# Altium schematic symbol library Diodes Zener.SchLib: 51 symbols
Pins are listed as number, name and electrical type; pins without a type are passive.

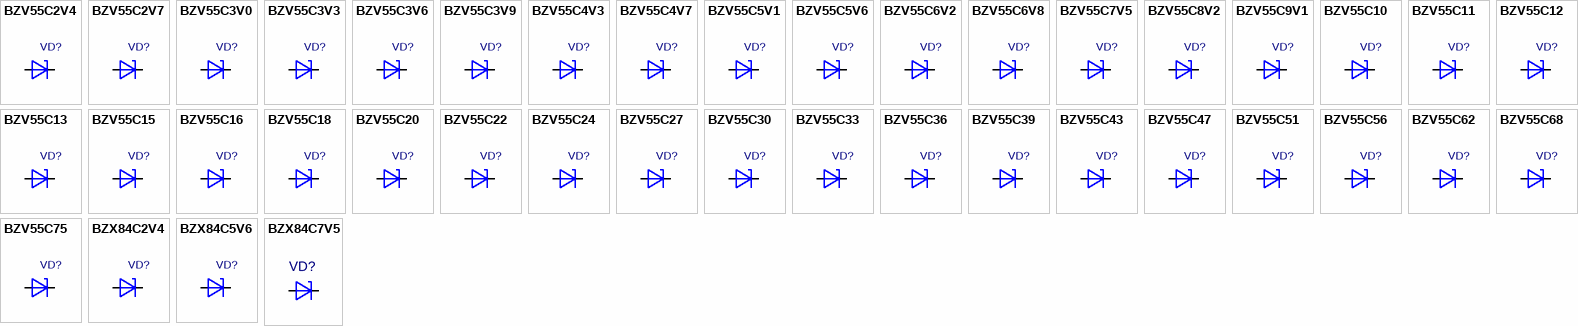
[diagram p0: symbols BZV55C2V4 to BZX84C7V5]

## BZV55C2V4
designator VD?  (value not drawn)
Value: *
footprint SOD-80C
pins: 1, 2

## BZV55C2V7
designator VD?  (value not drawn)
Value: *
footprint SOD-80C
pins: 1, 2

## BZV55C3V0
designator VD?  (value not drawn)
Value: *
footprint SOD-80C
pins: 1, 2

## BZV55C3V3
designator VD?  (value not drawn)
Value: *
footprint SOD-80C
pins: 1, 2

## BZV55C3V6
designator VD?  (value not drawn)
Value: *
footprint SOD-80C
pins: 1, 2

## BZV55C3V9
designator VD?  (value not drawn)
Value: *
footprint SOD-80C
pins: 1, 2

## BZV55C4V3
designator VD?  (value not drawn)
Value: *
footprint SOD-80C
pins: 1, 2

## BZV55C4V7
designator VD?  (value not drawn)
Value: *
footprint SOD-80C
pins: 1, 2

## BZV55C5V1
designator VD?  (value not drawn)
Value: *
footprint SOD-80C
pins: 1, 2

## BZV55C5V6
designator VD?  (value not drawn)
Value: *
footprint SOD-80C
pins: 1, 2

## BZV55C6V2
designator VD?  (value not drawn)
Value: *
footprint SOD-80C
pins: 1, 2

## BZV55C6V8
designator VD?  (value not drawn)
Value: *
footprint SOD-80C
pins: 1, 2

## BZV55C7V5
designator VD?  (value not drawn)
Value: *
footprint SOD-80C
pins: 1, 2

## BZV55C8V2
designator VD?  (value not drawn)
Value: *
footprint SOD-80C
pins: 1, 2

## BZV55C9V1
designator VD?  (value not drawn)
Value: *
footprint SOD-80C
pins: 1, 2

## BZV55C10
designator VD?  (value not drawn)
Value: *
footprint SOD-80C
pins: 1, 2

## BZV55C11
designator VD?  (value not drawn)
Value: *
footprint SOD-80C
pins: 1, 2

## BZV55C12
designator VD?  (value not drawn)
Value: *
footprint SOD-80C
pins: 1, 2

## BZV55C13
designator VD?  (value not drawn)
Value: *
footprint SOD-80C
pins: 1, 2

## BZV55C15
designator VD?  (value not drawn)
Value: *
footprint SOD-80C
pins: 1, 2

## BZV55C16
designator VD?  (value not drawn)
Value: *
footprint SOD-80C
pins: 1, 2

## BZV55C18
designator VD?  (value not drawn)
Value: *
footprint SOD-80C
pins: 1, 2

## BZV55C20
designator VD?  (value not drawn)
Value: *
footprint SOD-80C
pins: 1, 2

## BZV55C22
designator VD?  (value not drawn)
Value: *
footprint SOD-80C
pins: 1, 2

## BZV55C24
designator VD?  (value not drawn)
Value: *
footprint SOD-80C
pins: 1, 2

## BZV55C27
designator VD?  (value not drawn)
Value: *
footprint SOD-80C
pins: 1, 2

## BZV55C30
designator VD?  (value not drawn)
Value: *
footprint SOD-80C
pins: 1, 2

## BZV55C33
designator VD?  (value not drawn)
Value: *
footprint SOD-80C
pins: 1, 2

## BZV55C36
designator VD?  (value not drawn)
Value: *
footprint SOD-80C
pins: 1, 2

## BZV55C39
designator VD?  (value not drawn)
Value: *
footprint SOD-80C
pins: 1, 2

## BZV55C43
designator VD?  (value not drawn)
Value: *
footprint SOD-80C
pins: 1, 2

## BZV55C47
designator VD?  (value not drawn)
Value: *
footprint SOD-80C
pins: 1, 2

## BZV55C51
designator VD?  (value not drawn)
Value: *
footprint SOD-80C
pins: 1, 2

## BZV55C56
designator VD?  (value not drawn)
Value: *
footprint SOD-80C
pins: 1, 2

## BZV55C62
designator VD?  (value not drawn)
Value: *
footprint SOD-80C
pins: 1, 2

## BZV55C68
designator VD?  (value not drawn)
Value: *
footprint SOD-80C
pins: 1, 2

## BZV55C75
designator VD?  (value not drawn)
Value: *
footprint SOD-80C
pins: 1, 2

## BZX84C2V4
designator VD?  (value not drawn)
Value: *
footprint SOT-23
pins: 1, 3

## BZX84C5V6
designator VD?  (value not drawn)
Value: *
footprint SOT-23
pins: 1, 3

## BZX84C7V5
designator VD?  (value not drawn)
Value: *
footprint SOT-23
pins: 1, 3

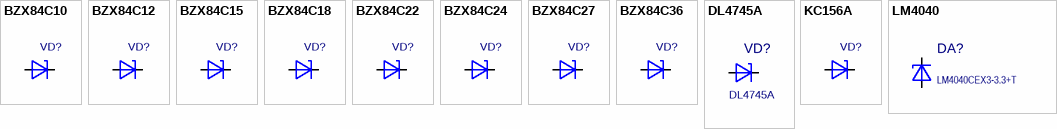
[diagram p1: symbols BZX84C10 to LM4040]

## BZX84C10
designator VD?  (value not drawn)
Value: *
footprint SOT-23
pins: 1, 3

## BZX84C12
designator VD?  (value not drawn)
Value: *
footprint SOT-23
pins: 1, 3

## BZX84C15
designator VD?  (value not drawn)
Value: *
footprint SOT-23
pins: 1, 3

## BZX84C18
designator VD?  (value not drawn)
Value: *
footprint SOT-23
pins: 1, 3

## BZX84C22
designator VD?  (value not drawn)
Value: *
footprint SOT-23
pins: 1, 3

## BZX84C24
designator VD?  (value not drawn)
Value: *
footprint SOT-23
pins: 1, 3

## BZX84C27
designator VD?  (value not drawn)
Value: *
footprint SOT-23
pins: 1, 3

## BZX84C36
designator VD?  (value not drawn)
Value: *
footprint SOT-23
pins: 1, 3

## DL4745A
designator VD?
SURFACE MOUNT M.E.L.F ZENER DIODE; Value: *
footprint DO-213AB
pins: 1, 2

## KC156A
designator VD?  (value not drawn)
Docum: аА0.336.162ТУ-85; Value: *
footprint 7_7+1
footprint 7_7+2
footprint 7_7+3
footprint 7_7-1
footprint 7_7-2
footprint 7_7k
footprint 7_7v
footprint 7_Primary
pins: 1 A, 2 K

## LM4040
designator DA?, comment LM4040CEX3-3.3+T
Improved Precision Micropower Shunt Voltage Reference
footprint SOT-23
pins: 1, 2